# Altium footprint library KWARC_16M.PcbLib: 1 footprints
Each footprint in its own frame and in the unit in brackets; x right, y up, seen from the top. Pads: shape width x height; smd on the part's side, far side on the other; paste and mask are expansions set on the pad; w line width, h text height; cw(c..) or ccw(c..) is an arc to the next point about the centre after c.
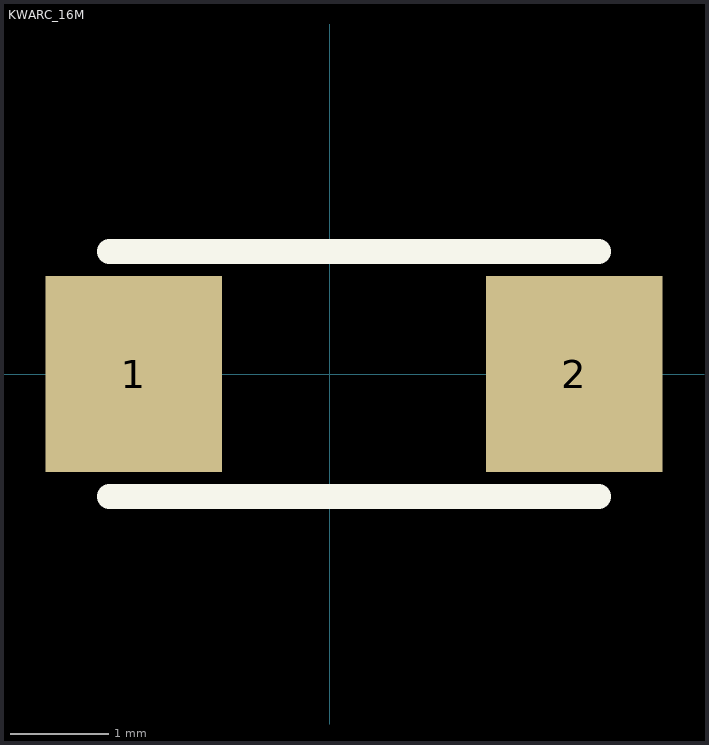
[diagram p0: the footprint, top view; thin cyan lines are the x and y axes]

## KWARC_16M [mm] "Kwarc_16MHz"
height 1.2
pads (2):
  rect 1.8x2 smd: 1(-2,0) 2(2.5,0)
Top Overlay:
  lines w0.254: -2.25,-1.25 2.75,-1.25 ; -2.25,1.25 2.75,1.25